# Altium schematic symbol library FILTER,2.4GHz,4-Pin,0603.Schlib: 1 symbol
Pins are listed as number, name and electrical type; pins without a type are passive.

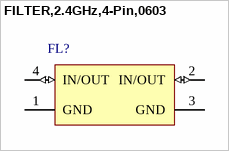
[diagram p0: symbol FILTER,2.4GHz,4-Pin,0603]

## FILTER,2.4GHz,4-Pin,0603
designator FL?
pins: 1 GND (power), 2 IN/OUT (io), 3 GND (power), 4 IN/OUT (io)